# Altium integrated library IC_LM2595S-5.0.IntLib: 1 symbol
Pins are listed as number, name and electrical type; pins without a type are passive.

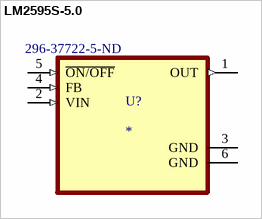
[diagram p0: symbol LM2595S-5.0]

## LM2595S-5.0
designator U?  Supplier Part Number 1: 296-37722-5-ND
SIMPLE SWITCHERé›»æºè½‰æ›å™¨150 KHz 1Aé™å£“ç©©å£“å™¨5-DDPAK / TO-263; MP: LM2595S-5.0; MF: Texas Instruments; Price: None; SnapEDA_Link: https://www.snapeda.com/parts/LM2595S-5.0/Texas%20Instruments/view-part/20758/?ref=snap; Availability: Warning; Value: *; DigiKey-Purchase-URL: https://snapeda.com/shop?store=DigiKey&id=20758; Package: TO-263-5 Texas Instruments; Check_prices: https://www.snapeda.com/parts/LM2595S-5.0/Texas%20Instruments/view-part/20758/?ref=eda; Supplier 1: Digi-Key
footprint VREG_TPS79625KTTR
pins: 1 OUT (out), 2 VIN (in), 3 GND (power), 4 FB (in), 5 ~{ON/OFF} (in), 6 GND (power)